# Altium schematic symbol library XE216-512-TQ128-C20.SchLib: 2 symbols
Pins are listed as number, name and electrical type; pins without a type are passive.

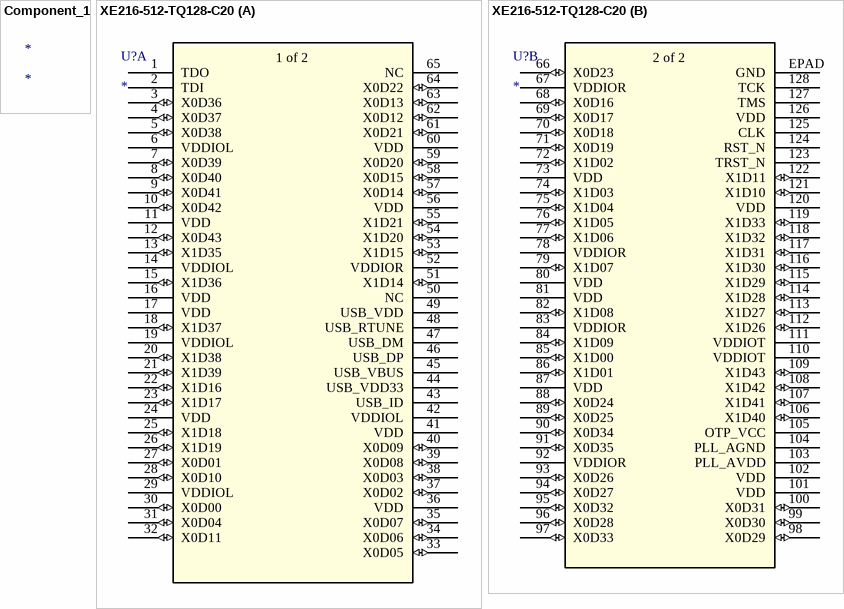
[diagram p0: symbols Component_1 to XE216-512-TQ128-C20]

## Component_1
designator *

## XE216-512-TQ128-C20
designator U?
No Description Available; Mfr_Name: XMOS; RefDes: RefDes; Type: Type
footprint TQFP_Q128-C20_XMO
part A pins: 1 TDO, 2 TDI, 3 X0D36 (io), 4 X0D37 (io), 5 X0D38 (io), 6 VDDIOL (power), 7 X0D39 (io), 8 X0D40 (io), 9 X0D41 (io), 10 X0D42 (io), 11 VDD (power), 12 X0D43 (io), 13 X1D35 (io), 14 VDDIOL (power), 15 X1D36 (io), 16 VDD (power), 17 VDD (power), 18 X1D37 (io), 19 VDDIOL (power), 20 X1D38 (io), 21 X1D39 (io), 22 X1D16 (io), 23 X1D17 (io), 24 VDD (power), 25 X1D18 (io), 26 X1D19 (io), 27 X0D01 (io), 28 X0D10 (io), 29 VDDIOL (power), 30 X0D00 (io), 31 X0D04 (io), 32 X0D11 (io), 33 X0D05 (io), 34 X0D06 (io), 35 X0D07 (io), 36 VDD (power), 37 X0D02 (io), 38 X0D03 (io), 39 X0D08 (io), 40 X0D09 (io), 41 VDD (power), 42 VDDIOL (power), 43 USB_ID, 44 USB_VDD33 (power), 45 USB_VBUS, 46 USB_DP, 47 USB_DM, 48 USB_RTUNE, 49 USB_VDD (power), 50 NC, 51 X1D14 (io), 52 VDDIOR (power), 53 X1D15 (io), 54 X1D20 (io), 55 X1D21 (io), 56 VDD (power), 57 X0D14 (io), 58 X0D15 (io), 59 X0D20 (io), 60 VDD (power), 61 X0D21 (io), 62 X0D12 (io), 63 X0D13 (io), 64 X0D22 (io), 65 NC
part B pins: 66 X0D23 (io), 67 VDDIOR (power), 68 X0D16 (io), 69 X0D17 (io), 70 X0D18 (io), 71 X0D19 (io), 72 X1D02 (io), 73 VDD (power), 74 X1D03 (io), 75 X1D04 (io), 76 X1D05 (io), 77 X1D06 (io), 78 VDDIOR (power), 79 X1D07 (io), 80 VDD (power), 81 VDD (power), 82 X1D08 (io), 83 VDDIOR (power), 84 X1D09 (io), 85 X1D00 (io), 86 X1D01 (io), 87 VDD (power), 88 X0D24 (io), 89 X0D25 (io), 90 X0D34 (io), 91 X0D35 (io), 92 VDDIOR (power), 93 X0D26 (io), 94 X0D27 (io), 95 X0D32 (io), 96 X0D28 (io), 97 X0D33 (io), 98 X0D29 (io), 99 X0D30 (io), 100 X0D31 (io), 101 VDD (power), 102 VDD (power), 103 PLL_AVDD (power), 104 PLL_AGND (power), 105 OTP_VCC, 106 X1D40 (io), 107 X1D41 (io), 108 X1D42 (io), 109 X1D43 (io), 110 VDDIOT (power), 111 VDDIOT (power), 112 X1D26 (io), 113 X1D27 (io), 114 X1D28 (io), 115 X1D29 (io), 116 X1D30 (io), 117 X1D31 (io), 118 X1D32 (io), 119 X1D33 (io), 120 VDD (power), 121 X1D10 (io), 122 X1D11 (io), 123 TRST_N, 124 RST_N, 125 CLK, 126 VDD (power), 127 TMS, 128 TCK, EPAD GND (power)
part A text: 1 of 2
part B text: 2 of 2